# Altium footprint library C&K 4 Pin Tactile Switch.PcbLib: 1 footprints
Each footprint in its own frame and in the unit in brackets; x right, y up, seen from the top. Pads: shape width x height; smd on the part's side, far side on the other; paste and mask are expansions set on the pad; w line width, h text height; cw(c..) or ccw(c..) is an arc to the next point about the centre after c.
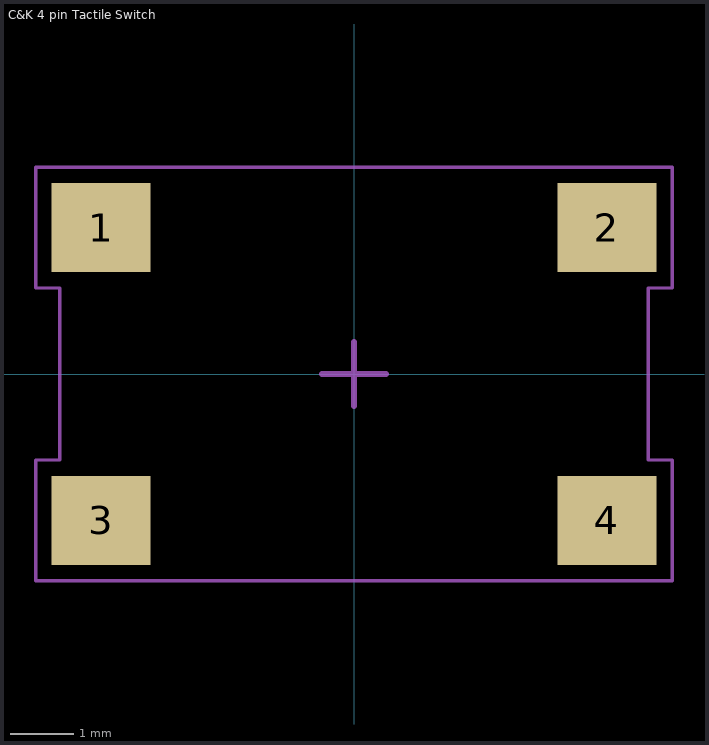
[diagram p0: the footprint, top view; thin cyan lines are the x and y axes]

## C&K 4 pin Tactile Switch [mm] "4 Pin Tactile Switch, SMT"
height 4.4
pads (4):
  rect 1.55x1.4 smd mask+0.1: 1(-3.975,2.3)
  rect 1.55x1.4 smd: 2(3.975,2.3) 3(-3.975,-2.3) 4(3.975,-2.3)
Mechanical 6:
  text "'.Designator'" at -1.55,-0.25 h0.6
Mechanical 8:
  lines w0.05: -5,-3.25 -5,-1.35 -4.625,-1.35 -4.625,1.35 -5,1.35 -5,3.25 5,3.25 5,1.35 4.625,1.35 4.625,-1.35 5,-1.35 5,-3.25 -5,-3.25
Mechanical 15:
  lines w0.05: -5,-3.25 5,-3.25 5,-1.35 4.625,-1.35 4.625,1.35 5,1.35 5,3.25 -5,3.25 -5,1.35 -4.625,1.35 -4.625,-1.35 -5,-1.35 -5,-3.25
  lines w0.1: -0.5,0 0.5,0 ; 0,-0.5 0,0.5
3D body "97m02645fp.stp": height 5, standoff 0, extent -4.475,-3.025 4.525,2.975